# Altium schematic symbol library SCH - POWER - SWITCHMODE - TI TPS65131-Q1RGE.SchLib: 1 symbol
Pins are listed as number, name and electrical type; pins without a type are passive.

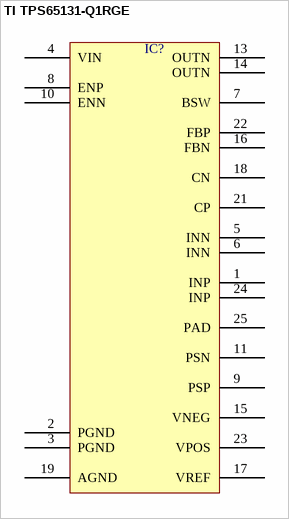
[diagram p0: symbol TI TPS65131-Q1RGE]

## TI TPS65131-Q1RGE
designator IC?  (value not drawn)
pins: 1 INP, 2 PGND, 3 PGND, 4 VIN, 5 INN, 6 INN, 7 BSW, 8 ENP, 9 PSP, 10 ENN, 11 PSN, 13 OUTN, 14 OUTN, 15 VNEG, 16 FBN, 17 VREF, 18 CN, 19 AGND, 21 CP, 22 FBP, 23 VPOS, 24 INP, 25 PAD